# Altium integrated library Amplifier.IntLib: 35 symbols
Pins are listed as number, name and electrical type; pins without a type are passive.

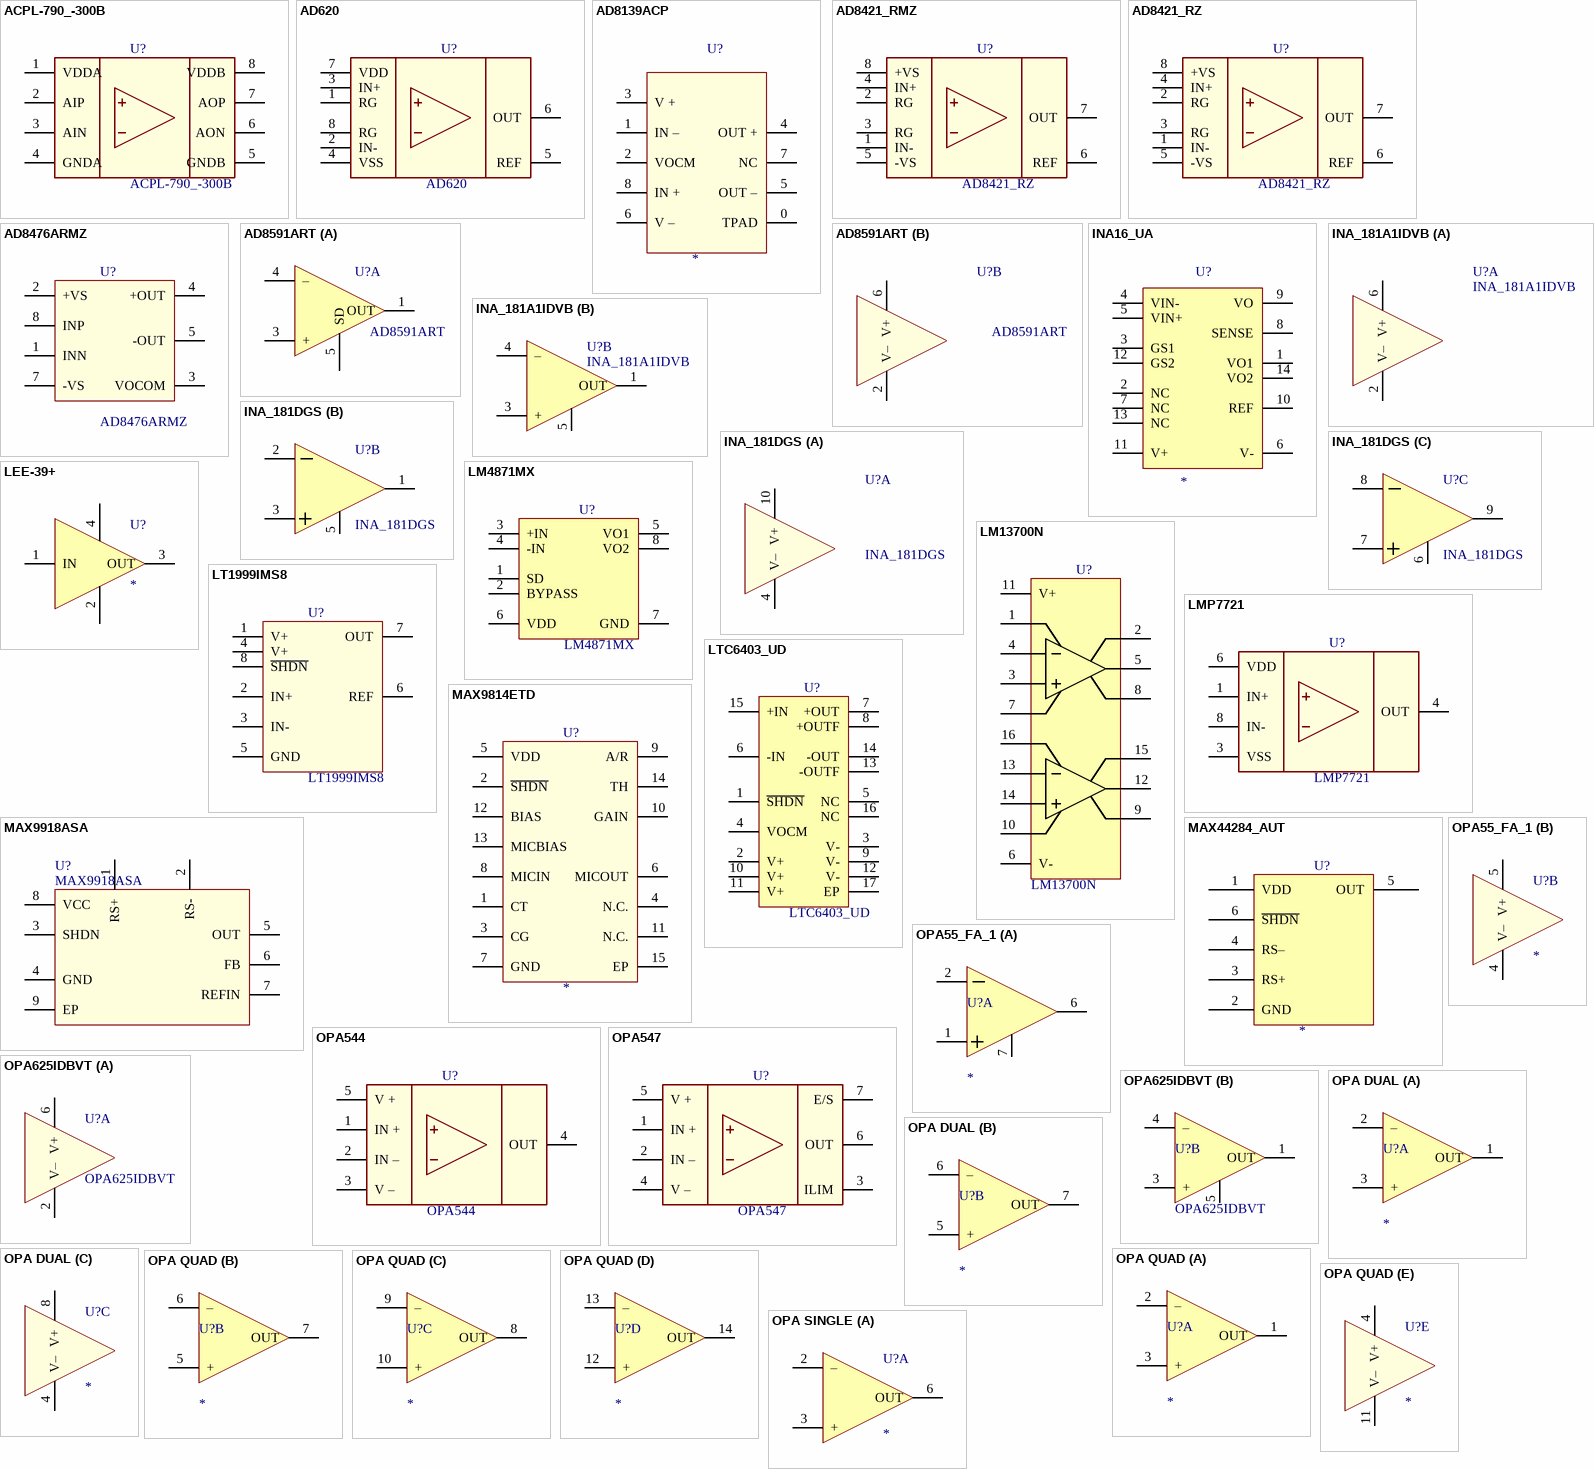
[diagram p0: symbols ACPL-790_-300B to OPA SINGLE]

## ACPL-790_-300B
designator U?
Precision Isolation Amplifiers; Value: ACPL-790_-300B
footprint GullWing8 P2.54 C9.8x6.4 H3.6 (GullWing, 8-Leads, Body 9.8x6.4mm, Pitch 2.54mm)
pins: 1 VDDA, 2 AIP, 3 AIN, 4 GNDA, 5 GNDB, 6 AON, 7 AOP, 8 VDDB

## AD620
designator U?
Low Cost, Low Power  Instrumentation Amplifier; Value: AD620
footprint SO8 P1.27 C4.0X5.0 H1.75 (8-Pin Small Outline Integrated Circuit 1.27 mm Pitch, IPC Medium Density)
pins: 1 RG, 2 IN-, 3 IN+, 4 VSS, 5 REF, 6 OUT, 7 VDD, 8 RG

## AD8139ACP
designator U?
IC OPAMP DIFF 410MHZ RRO 8LFCSP; Value: *
footprint LFCSP8 P0.5 C3.0x2.8 H1.0 (LFCSP8)
pins: 0 TPAD, 1 IN –, 2 VOCM, 3 V +, 4 OUT +, 5 OUT –, 6 V –, 7 NC, 8 IN +

## AD8421_RMZ
designator U?, comment AD8421_RZ
Low Power, Instrumentation Amplifier; Value: AD8421_RZ
footprint MSOP8 P0.65 C3.0X3.0 H1.1 (MSOP, 8-Leads, Body 3.00x3.00mm, Pitch 0.65mm, IPC Medium Density)
pins: 1 IN-, 2 RG, 3 RG, 4 IN+, 5 -VS, 6 REF, 7 OUT, 8 +VS

## AD8421_RZ
designator U?
Low Power, Instrumentation Amplifier; Value: AD8421_RZ
footprint SO8 P1.27 C4.0X5.0 H1.75 (8-Pin Small Outline Integrated Circuit 1.27 mm Pitch, IPC Medium Density)
pins: 1 IN-, 2 RG, 3 RG, 4 IN+, 5 -VS, 6 REF, 7 OUT, 8 +VS

## AD8476ARMZ
designator U?
Low Power, Unity Gain, Fully Differential Amplifierand ADC Driver; Value: AD8476ARMZ
footprint MSOP8 P0.65 C3.0X3.0 H1.1 (MSOP, 8-Leads, Body 3.00x3.00mm, Pitch 0.65mm, IPC Medium Density)
pins: 1 INN, 2 +VS, 3 VOCOM, 4 +OUT, 5 -OUT, 7 -VS, 8 INP

## AD8591ART
designator U?
CMOS Single-Supply, Rail-to-Rail Input/Output  Operational Amplifiers with Shutdown; Value: AD8591ART
footprint SOT23-6 P0.95 C1.5x3.0 H1.3 (SOT23, 6-Leads, Body 1.6x3.0mm, Pitch 0.95mm, IPC Medium Density)
part A pins: 1 OUT, 3 +, 4 –, 5 SD
part B pins: 2 V–, 6 V+

## INA16_UA
designator U?
Low-Noise, Low-Distortion Instrumentation Amplifier; Value: *
footprint SO14 P1.27 C4.0X8.8 H1.75 (SOIC, 14-Leads, Body 4.0X8.8mm, Pitch 1.27mm, IPC Medium Density)
pins: 1 VO1, 2 NC, 3 GS1, 4 VIN-, 5 VIN+, 6 V-, 7 NC, 8 SENSE, 9 VO, 10 REF, 11 V+, 12 GS2, 13 NC, 14 VO2

## INA_181A1IDVB
designator U?
Bidirectional, low- and high-side voltage output, current-sense amplifiers; Value: INA_181A1IDVB
footprint SOT23-6 P0.95 C1.5x3.0 H1.3 (SOT23, 6-Leads, Body 1.6x3.0mm, Pitch 0.95mm, IPC Medium Density)
part A pins: 2 V–, 6 V+
part B pins: 1 OUT, 3 +, 4 –, 5 REF

## INA_181DGS
designator U?
Bidirectional, low- and high-side voltage output, current-sense amplifiers; Value: INA_181DGS
footprint VSSOP10 P0.5 C3.1X3.1 H1.1 (VSSOP, 10-Leads, Body 3.10x3.1mm, Pitch 0.5mm, Height 1.1); pin to pad 4>4+8
part A pins: 4 V–, 10 V+
part B pins: 1 OUT1, 2 IN1-, 3 IN1+, 5 REF1
part C pins: 6 REF2, 7 IN2+, 8 IN2-, 9 OUT2

## LEE-39+
designator U?
Generic single operational single amplifier 8 pins; Value: *
footprint LEE-39+
pins: 1 IN, 2, 3 OUT, 4

## LM4871MX
designator U?
3W Audio Power Amplifier with Shutdown Mode; Value: LM4871MX
footprint SO8 P1.27 C4.0X5.0 H1.75 (8-Pin Small Outline Integrated Circuit 1.27 mm Pitch, IPC Medium Density)
pins: 1 SD, 2 BYPASS, 3 +IN, 4 -IN, 5 VO1, 6 VDD, 7 GND, 8 VO2

## LM13700N
designator U?
Dual Operational Transconductance Amplifiers; Value: LM13700N
footprint DIP16 P2.54 W7.62 H5.0 (16-Pin Dual in Line Integrated Circuit 2.54 Pitch, 7.62 Width, Case 20.2x6mm)
pins: 1 AMP BIAS IN1, 2 DIODE BIAS1, 3 IN1+, 4 IN1-, 5 OUT1, 6 V-, 7 BUF IN1, 8 BUF OUT1, 9 BUF OUT2, 10 BUF IN2, 11 V+, 12 OUT2, 13 IN2-, 14 IN2+, 15 DIODE BIAS2, 16 AMP BIAS IN2

## LMP7721
designator U?
3-Femtoampere Input Bias Current Precision Amplifier; Value: LMP7721
footprint SO8 P1.27 C4.0X5.0 H1.75 (8-Pin Small Outline Integrated Circuit 1.27 mm Pitch, IPC Medium Density)
pins: 1 IN+, 2 NC hidden, 3 VSS, 4 OUT, 5 NC hidden, 6 VDD, 7 NC hidden, 8 IN-

## LT1999IMS8
designator U?
High Voltage, Bidirectional  Current Sense Amplifier; Value: LT1999IMS8
footprint MSOP8 P0.65 C3.0X3.0 H1.1 (MSOP, 8-Leads, Body 3.00x3.00mm, Pitch 0.65mm, IPC Medium Density)
pins: 1 V+, 2 IN+, 3 IN-, 4 V+, 5 GND, 6 REF, 7 OUT, 8 ~{SHDN}

## LTC6403_UD
designator U?
200MHz, Low Noise,  Low Power Fully Differential  Input/Output Amplifier/Driver; Value: LTC6403_UD
footprint QFN16 P0.5 T1.5x1.5 C3.0x3.0 H1.0
pins: 1 ~{SHDN} "When S\H\D\N\ is floating or directly tied to V+, the LTC6403-1 is in the normal (active) operating mode. When Pin 1 is pulled a minimum of 2.1V below V+, the LTC6403-1 enters into a low power shutdown state. See (See Datasheet)", 2 V+ "Power Supply Pins. Three pairs of power supply pins are provided to keep the power supply inductance as low as possible to prevent any degradation of amplifier 2nd harmonic performance. It is critical that close attention be (See Datasheet)", 3 V- "Power Supply Pins. Three pairs of power supply pins are provided to keep the power supply inductance as low as possible to prevent any degradation of amplifier 2nd harmonic performance. It is critical that close attention be (See Datasheet)", 4 VOCM "Output Common Mode Reference Voltage. The voltage on VOCM sets the output common mode voltage level (which is defined as the average of the voltages on the +OUT and -OUT pins). The VOCM pin is the midpoint of an internal (See Datasheet)", 5 NC "No Connection. These pins are not connected internally.", 6 -IN "Noninverting and Inverting Input pins of the amplifier, respectively. For best performance, it is highly recommended that stray capacitance be kept to an absolute minimum by keeping printed circuit connections as short as (See Datasheet)", 7 +OUT "Unfi ltered Output Pins. Each amplifier output is designed to drive a load capacitance of 10pF. This means the amplifier can drive 10pF from each output to ground or 5pF differentially. Larger capacitive loads should be (See Datasheet)", 8 +OUTF "Filtered Output Pins. These pins have a series 100ohm resistor connected between the filtered and unfiltered outputs and three 12pF capacitors. Both +OUTF, and -OUTF have 12pF to V-, plus an additional 12pF differentially (See Datasheet)", 9 V- "Power Supply Pins. Three pairs of power supply pins are provided to keep the power supply inductance as low as possible to prevent any degradation of amplifier 2nd harmonic performance. It is critical that close attention be (See Datasheet)", 10 V+ "Power Supply Pins. Three pairs of power supply pins are provided to keep the power supply inductance as low as possible to prevent any degradation of amplifier 2nd harmonic performance. It is critical that close attention be (See Datasheet)", 11 V+ "Power Supply Pins. Three pairs of power supply pins are provided to keep the power supply inductance as low as possible to prevent any degradation of amplifier 2nd harmonic performance. It is critical that close attention be (See Datasheet)", 12 V- "Power Supply Pins. Three pairs of power supply pins are provided to keep the power supply inductance as low as possible to prevent any degradation of amplifier 2nd harmonic performance. It is critical that close attention be (See Datasheet)", 13 -OUTF "Filtered Output Pins. These pins have a series 100ohm resistor connected between the filtered and unfiltered outputs and three 12pF capacitors. Both +OUTF, and -OUTF have 12pF to V-, plus an additional 12pF differentially (See Datasheet)", 14 -OUT "Unfiltered Output Pins. Each amplifier output is designed to drive a load capacitance of 10pF. This means the amplifier can drive 10pF from each output to ground or 5pF differentially. Larger capacitive loads should be (See Datasheet)", 15 +IN "Noninverting and Inverting Input pins of the amplifier, respectively. For best performance, it is highly recommended that stray capacitance be kept to an absolute minimum by keeping printed circuit connections as short as (See Datasheet)", 16 NC "No Connection. These pins are not connected internally.", 17 EP "Tie the pad to V- (Pins 3, 9, and 12). If split supplies are used, do not tie the pad to ground."

## MAX9814ETD
designator U?
Microphone Amplifier; Value: *
footprint TDFN14 P0.4 T2.3X1.7 C3.0X3.0 H1.0 (TDFN, 14-Leads, Body 3.00x3.00mm, Pitch 0.40mm, Thermal Pad 2.30x1.70mm, IPC Medium Density)
pins: 1 CT, 2 ~{SHDN}, 3 CG, 4 N.C., 5 VDD, 6 MICOUT, 7 GND, 8 MICIN, 9 A/R, 10 GAIN, 11 N.C., 12 BIAS, 13 MICBIAS, 14 TH, 15 EP

## MAX9918ASA
designator U?
Precision Uni-/Bidirectional,Current-Sense Amplifiers; Value: MAX9918ASA
footprint SO8-TP P1.27 T2.4x2.4 C4.0X5.0 H1.4
pins: 1 RS+, 2 RS-, 3 SHDN, 4 GND, 5 OUT, 6 FB, 7 REFIN, 8 VCC, 9 EP

## MAX44284_AUT
designator U?
36V, Input Common-Mode, High-Precision,  Low-Power Current-Sense Amplifier; Value: *
footprint SOT23-6 P0.95 C1.5x3.0 H1.3 (SOT23, 6-Leads, Body 1.6x3.0mm, Pitch 0.95mm, IPC Medium Density)
pins: 1 VDD, 2 GND, 3 RS+, 4 RS–, 5 OUT, 6 ~{SHDN}

## OPA55_FA_1
designator U?
High-Voltage,High-CurrentOperationalAmplifiers; Value: *
footprint DPAK7 P1.27 C9.4X10.4 H4.65 (D2-PAK, 8-Pads, Body 9.40X10.40mm (max), IPC Medium Density); pin to pad 4>4+8
part A pins: 1 IN+, 2 IN-, 6 OUT, 7 FLAG
part B pins: 4 V–, 5 V+

## OPA544
designator U?
IC OPAMP High-Voltage, High-Current; Value: OPA544
footprint TO220-5 P1.7 T10.8X4.8 (TO220-5PIN VERTICAL, Pitch 1.7, Case 10.4x4.7)
pins: 1 IN +, 2 IN –, 3 V –, 4 OUT, 5 V +

## OPA547
designator U?
IC OPAMP High-Voltage, High-Current; Value: OPA547
footprint TO220-7 P1.27 T10.8X4.8 (TO220-5PIN VERTICAL, Pitch 1.7, Case 10.4x4.7)
pins: 1 IN +, 2 IN –, 3 ILIM, 4 V –, 5 V +, 6 OUT, 7 E/S

## OPA625IDBVT
designator U?
High-Bandwidth, High-Precision, Low THD+N ADC Driver; Value: OPA625IDBVT
footprint SOT23-6 P0.95 C1.5x3.0 H1.3 (SOT23, 6-Leads, Body 1.6x3.0mm, Pitch 0.95mm, IPC Medium Density)
part A pins: 2 V–, 6 V+
part B pins: 1 OUT, 3 +, 4 –, 5 MODE

## OPA DUAL
designator U?
Generic dual OPA 8 pins; Value: *
footprint DIP8 P2.54 W7.62 H5.0 (8-Pin Dual in Line Integrated Circuit 2.54 Pitch, 7.62 Width, Case 10x6mm)
footprint SO8 P1.27 C4.0X5.0 H1.75 (8-Pin Small Outline Integrated Circuit 1.27 mm Pitch, IPC Medium Density)
footprint MSOP8 P0.65 C3.0X3.0 H1.1 (MSOP, 8-Leads, Body 3.00x3.00mm, Pitch 0.65mm, IPC Medium Density)
part A pins: 1 OUT, 2 –, 3 +
part B pins: 5 +, 6 –, 7 OUT
part C pins: 4 V–, 8 V+

## OPA QUAD
designator U?
Generic quad OPA 14 pins; Value: *
footprint DIP14 P2.54 W7.62 H5.0 (14-Pin Dual in Line Integrated Circuit 2.54 Pitch, 7.62 Width, Case 20x6mm)
footprint SO14 P1.27 C4.0X8.8 H1.75 (SOIC, 14-Leads, Body 4.0X8.8mm, Pitch 1.27mm, IPC Medium Density)
footprint TSSOP14 P0.65 C4.4x5.0 H1.1 (TSSOP, 14-Leads, Body 5x4.4mm, Pitch 0.65mm, IPC Medium Density)
part A pins: 1 OUT, 2 –, 3 +
part B pins: 5 +, 6 –, 7 OUT
part C pins: 8 OUT, 9 –, 10 +
part D pins: 12 +, 13 –, 14 OUT
part E pins: 4 V+, 11 V–

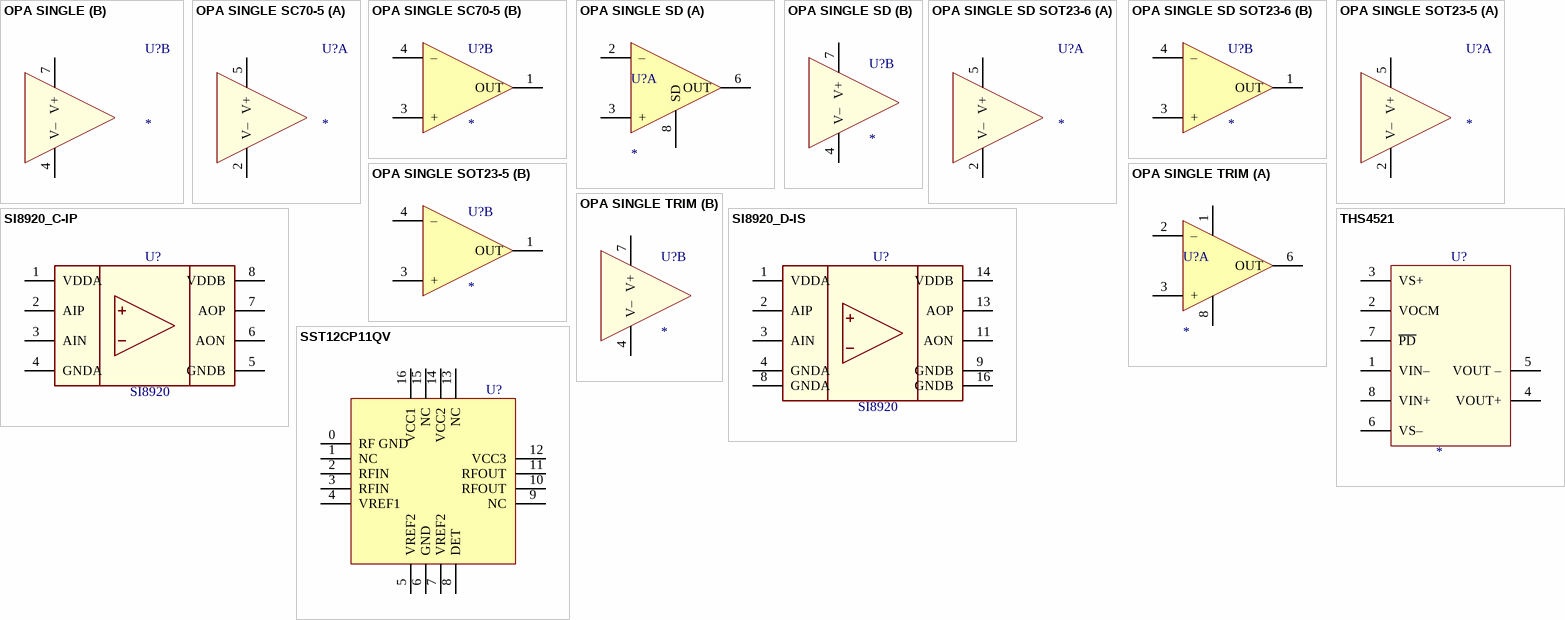
[diagram p1: symbols OPA SINGLE to THS4521]

## OPA SINGLE
designator U?
Generic single OPA 8 pins; Value: *
footprint DIP8 P2.54 W7.62 H5.0 (8-Pin Dual in Line Integrated Circuit 2.54 Pitch, 7.62 Width, Case 10x6mm)
footprint SO8 P1.27 C4.0X5.0 H1.75 (8-Pin Small Outline Integrated Circuit 1.27 mm Pitch, IPC Medium Density)
footprint MSOP8 P0.65 C3.0X3.0 H1.1 (MSOP, 8-Leads, Body 3.00x3.00mm, Pitch 0.65mm, IPC Medium Density)
footprint HKQ-SO8 P1.27 C5.9x 7.2 H2.8 (HKQ-SO8, B 5.9x7.2mm, P 1.27mm H 2.8mm)
part A pins: 2 –, 3 +, 6 OUT
part B pins: 4 V–, 7 V+

## OPA SINGLE SC70-5
designator U?
Generic Single OPA 5pins 1OUT/2-V/3+IN/4-IN/5+V; Value: *
footprint SC70-5 P0.65 C1.4x2.2 H1.0 (SC70, 5-Leads, Body 2.2x1.40mm, Pitch 0.65mm, IPC Medium Density)
part A pins: 2 V–, 5 V+
part B pins: 1 OUT, 3 +, 4 –

## OPA SINGLE SD
designator U?
Generic single OPA with Shutdown 8 pins; Value: *
footprint VSSOP8 P0.65 C3.0X3.0 H1.1 (8-Pin 0.65 mm Pitch)
part A pins: 2 –, 3 +, 6 OUT, 8 SD
part B pins: 4 V–, 7 V+

## OPA SINGLE SD SOT23-6
designator U?
Generic Single OPA 6pins 1OUT/2-V/3+IN/4-IN/5-SD/6+V; Value: *
footprint SOT23-6 P0.95 C1.5x3.0 H1.3 (SOT23, 6-Leads, Body 1.6x3.0mm, Pitch 0.95mm, IPC Medium Density)
part A pins: 2 V–, 5 V+
part B pins: 1 OUT, 3 +, 4 –

## OPA SINGLE SOT23-5
designator U?
Generic Single OPA 5pins 1OUT/2-V/3+IN/4-IN/5+V; Value: *
footprint SOT23-5 P0.95 C1.6x3.0 H1.3 (SOT23, 5-Leads, Body 1.6x3.0mm, Pitch 0.95mm, IPC Medium Density)
part A pins: 2 V–, 5 V+
part B pins: 1 OUT, 3 +, 4 –

## OPA SINGLE TRIM
designator U?
Generic single OPA 8 pins with VOS Trimmer; Value: *
footprint DIP8 P2.54 W7.62 H5.0 (8-Pin Dual in Line Integrated Circuit 2.54 Pitch, 7.62 Width, Case 10x6mm)
footprint SO8 P1.27 C4.0X5.0 H1.75 (8-Pin Small Outline Integrated Circuit 1.27 mm Pitch, IPC Medium Density)
footprint MSOP8 P0.65 C3.0X3.0 H1.1 (MSOP, 8-Leads, Body 3.00x3.00mm, Pitch 0.65mm, IPC Medium Density)
footprint HKQ-SO8 P1.27 C5.9x 7.2 H2.8 (HKQ-SO8, B 5.9x7.2mm, P 1.27mm H 2.8mm)
part A pins: 1 TRIM, 2 –, 3 +, 6 OUT, 8 TRIM
part B pins: 4 V–, 7 V+

## SI8920_C-IP
designator U?, comment SI8920
ISOLATED AMPLIFIER FOR CURRENT SHUNT MEASUREMENT; Value: SI8920
footprint LSOP8 P2.54 C6.4X9.6 H4.2 (8-Pin Small Outline Integrated Circuit 1.27 mm Pitch, IPC Medium Density)
pins: 1 VDDA, 2 AIP, 3 AIN, 4 GNDA, 5 GNDB, 6 AON, 7 AOP, 8 VDDB

## SI8920_D-IS
designator U?, comment SI8920
ISOLATED AMPLIFIER FOR CURRENT SHUNT MEASUREMENT; Value: SI8920
footprint SO16W P1.27 C7.5x10.2 H2.65 (Footprint not found)
pins: 1 VDDA, 2 AIP, 3 AIN, 4 GNDA, 8 GNDA, 9 GNDB, 11 AON, 13 AOP, 14 VDDB, 16 GNDB

## SST12CP11QV
designator U?
High-power  and  high-gain  power  amplifier
footprint VQFN16 P0.5 C3.0x3.0 H1.0 (VQFN16 MICROCHIP)
pins: 0 RF GND, 1 NC, 2 RFIN, 3 RFIN, 4 VREF1, 5 VREF2, 6 GND, 7 VREF2, 8 DET, 9 NC, 10 RFOUT, 11 RFOUT, 12 VCC3, 13 NC, 14 VCC2, 15 NC, 16 VCC1

## THS4521
designator U?
Very Low Power, Negative Rail Input, Rail-To-Rail Output, Fully Differential  Amplifier; Value: *
footprint MSOP8 P0.65 C3.0X3.0 H1.1 (MSOP, 8-Leads, Body 3.00x3.00mm, Pitch 0.65mm, IPC Medium Density)
pins: 1 VIN–, 2 VOCM, 3 VS+, 4 VOUT+, 5 VOUT –, 6 VS–, 7 ~{PD}, 8 VIN+